# Altium integrated library AMP D Subminiature 050 Series.IntLib: 275 symbols (part 2 of 7)
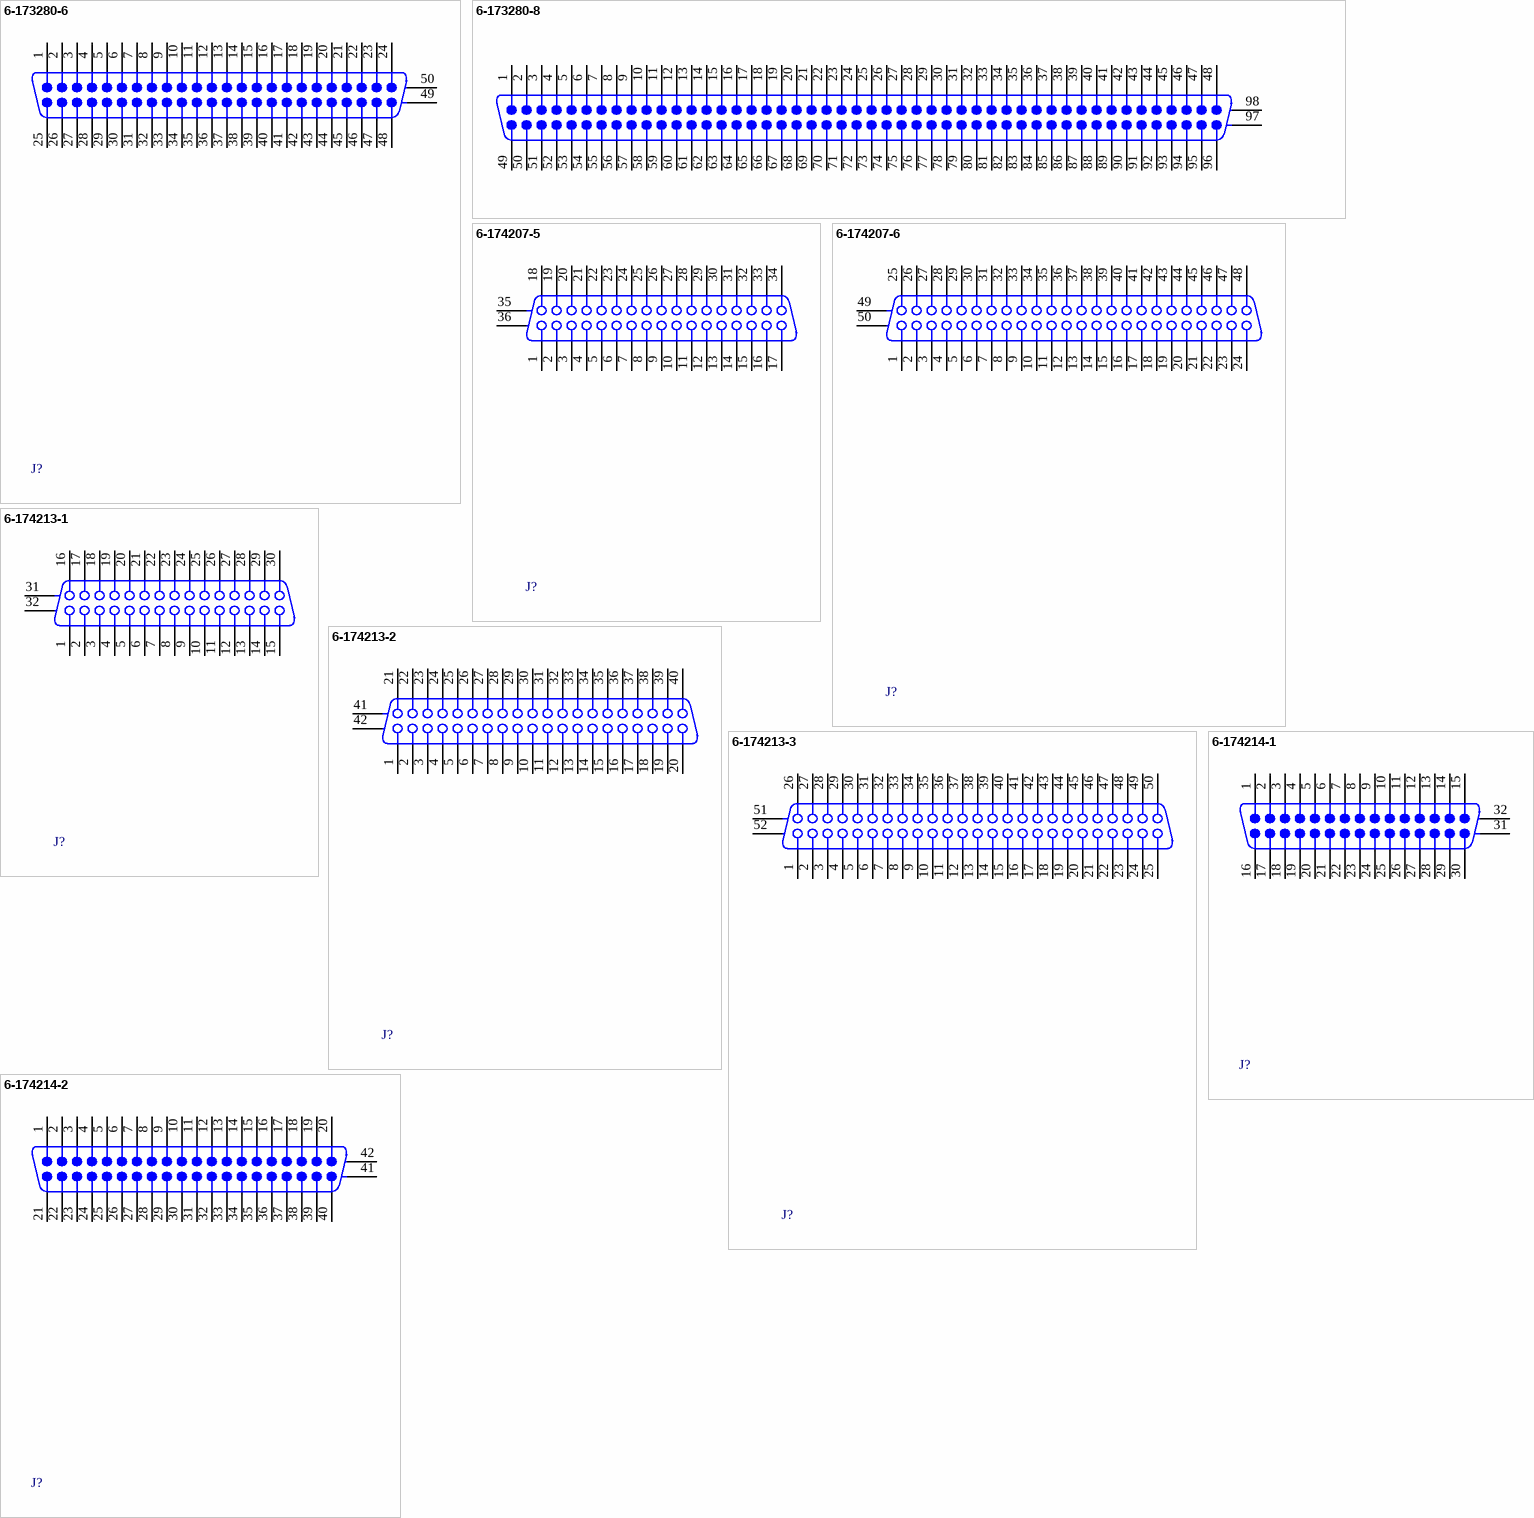
[diagram p31: symbols 6-173280-6 to 6-174214-2]

## 6-174213-1
designator J?
Plug Assembly, (Horizontal without Leg) AMPLIMITE I B-to-B Connector; Positions: 30; Note: Series I; Gender: Receptacle Header; Note: Without Mating Lock; PCB_Layout: Complies with manufacturer's recommendation.; DrillSize: Corresponds to nominal value.; Published: 17-Jul-2002; DatasheetDocument: Oct-1991; PackageDocument: 31-Oct-1991; PackageReference: 6-174213-1; Publisher: Altium Limited; Orientation: Right Angle; ComponentLink1Description: Manufacturer Link; ComponentLink1URL: http://www.tycoelectronics.com/; ComponentLink2Description: Packaging Specification; ComponentLink2URL: http://ecommas.tycoelectronics.com/commerce/DocumentDelivery/DDEController?Action=showdoc&DocId=Customer+Drawing%7F174213%7FE%7Fpdf%7FEnglish%7FENG_CD_174213_E.pdf
footprint 6-174213-1 (Connector; D Subminiature 050 Series; 30 Position; Right Angle)
signal-integrity model D Subminiature
pins: 1, 2, 3, 4, 5, 6, 7, 8, 9, 10, 11, 12, 13, 14, 15, 16, 17, 18, 19, 20, 21, 22, 23, 24, 25, 26, 27, 28, 29, 30, 31 MH1, 32 MH2

## 6-174213-2
designator J?
Plug Assembly, (Horizontal without Leg) AMPLIMITE I B-to-B Connector; Positions: 40; Note: Series I; Gender: Receptacle Header; Note: Without Mating Lock; PCB_Layout: Complies with manufacturer's recommendation.; DrillSize: Corresponds to nominal value.; Published: 17-Jul-2002; DatasheetDocument: Oct-1991; PackageDocument: 31-Oct-1991; PackageReference: 6-174213-2; Publisher: Altium Limited; Orientation: Right Angle; ComponentLink1Description: Manufacturer Link; ComponentLink1URL: http://www.tycoelectronics.com/; ComponentLink2Description: Packaging Specification; ComponentLink2URL: http://ecommas.tycoelectronics.com/commerce/DocumentDelivery/DDEController?Action=showdoc&DocId=Customer+Drawing%7F174213%7FE%7Fpdf%7FEnglish%7FENG_CD_174213_E.pdf
footprint 6-174213-2 (Connector; D Subminiature 050 Series; 40 Position; Right Angle)
signal-integrity model D Subminiature
pins: 1, 2, 3, 4, 5, 6, 7, 8, 9, 10, 11, 12, 13, 14, 15, 16, 17, 18, 19, 20, 21, 22, 23, 24, 25, 26, 27, 28, 29, 30, 31, 32, 33, 34, 35, 36, 37, 38, 39, 40, 41 MH1, 42 MH2

## 6-174213-3
designator J?
Plug Assembly, (Horizontal without Leg) AMPLIMITE I B-to-B Connector; Positions: 50; Note: Series I; Gender: Receptacle Header; Note: Without Mating Lock; PCB_Layout: Complies with manufacturer's recommendation.; DrillSize: Corresponds to nominal value.; Published: 17-Jul-2002; DatasheetDocument: Oct-1991; PackageDocument: 31-Oct-1991; PackageReference: 6-174213-3; Publisher: Altium Limited; Orientation: Right Angle; ComponentLink1Description: Manufacturer Link; ComponentLink1URL: http://www.tycoelectronics.com/; ComponentLink2Description: Packaging Specification; ComponentLink2URL: http://ecommas.tycoelectronics.com/commerce/DocumentDelivery/DDEController?Action=showdoc&DocId=Customer+Drawing%7F174213%7FE%7Fpdf%7FEnglish%7FENG_CD_174213_E.pdf
footprint 6-174213-3 (Connector; D Subminiature 050 Series; 50 Position; Right Angle)
signal-integrity model D Subminiature
pins: 1, 2, 3, 4, 5, 6, 7, 8, 9, 10, 11, 12, 13, 14, 15, 16, 17, 18, 19, 20, 21, 22, 23, 24, 25, 26, 27, 28, 29, 30, 31, 32, 33, 34, 35, 36, 37, 38, 39, 40, 41, 42, 43, 44, 45, 46, 47, 48, 49, 50, 51 MH1, 52 MH2

## 6-174214-1
designator J?
Cap Assembly, (Horizontal without Leg) AMPLIMITE I B-to-B Connector; Positions: 30; Note: Series I; Gender: Plug Header; Note: Without Mating Lock; PCB_Layout: Complies with manufacturer's recommendation.; DrillSize: Corresponds to nominal value.; Published: 17-Jul-2002; DatasheetDocument: Oct-1991; PackageDocument: 31-Oct-1991; PackageReference: 6-174214-1; Publisher: Altium Limited; Orientation: Right Angle; ComponentLink1Description: Manufacturer Link; ComponentLink1URL: http://www.tycoelectronics.com/; ComponentLink2Description: Packaging Specification; ComponentLink2URL: http://ecommas.tycoelectronics.com/commerce/DocumentDelivery/DDEController?Action=showdoc&DocId=Customer+Drawing%7F174214%7FE%7Fpdf%7FEnglish%7FENG_CD_174214_E.pdf
footprint 6-174214-1 (Connector; D Subminiature 050 Series; 30 Position; Right Angle)
signal-integrity model D Subminiature
pins: 1, 2, 3, 4, 5, 6, 7, 8, 9, 10, 11, 12, 13, 14, 15, 16, 17, 18, 19, 20, 21, 22, 23, 24, 25, 26, 27, 28, 29, 30, 31 MH1, 32 MH2

## 6-174214-2
designator J?
Cap Assembly, (Horizontal without Leg) AMPLIMITE I B-to-B Connector; Positions: 40; Note: Series I; Gender: Plug Header; Note: Without Mating Lock; PCB_Layout: Complies with manufacturer's recommendation.; DrillSize: Corresponds to nominal value.; Published: 17-Jul-2002; DatasheetDocument: Oct-1991; PackageDocument: 31-Oct-1991; PackageReference: 6-174214-2; Publisher: Altium Limited; Orientation: Right Angle; ComponentLink1Description: Manufacturer Link; ComponentLink1URL: http://www.tycoelectronics.com/; ComponentLink2Description: Packaging Specification; ComponentLink2URL: http://ecommas.tycoelectronics.com/commerce/DocumentDelivery/DDEController?Action=showdoc&DocId=Customer+Drawing%7F174214%7FE%7Fpdf%7FEnglish%7FENG_CD_174214_E.pdf
footprint 6-174214-2 (Connector; D Subminiature 050 Series; 40 Position; Right Angle)
signal-integrity model D Subminiature
pins: 1, 2, 3, 4, 5, 6, 7, 8, 9, 10, 11, 12, 13, 14, 15, 16, 17, 18, 19, 20, 21, 22, 23, 24, 25, 26, 27, 28, 29, 30, 31, 32, 33, 34, 35, 36, 37, 38, 39, 40, 41 MH1, 42 MH2

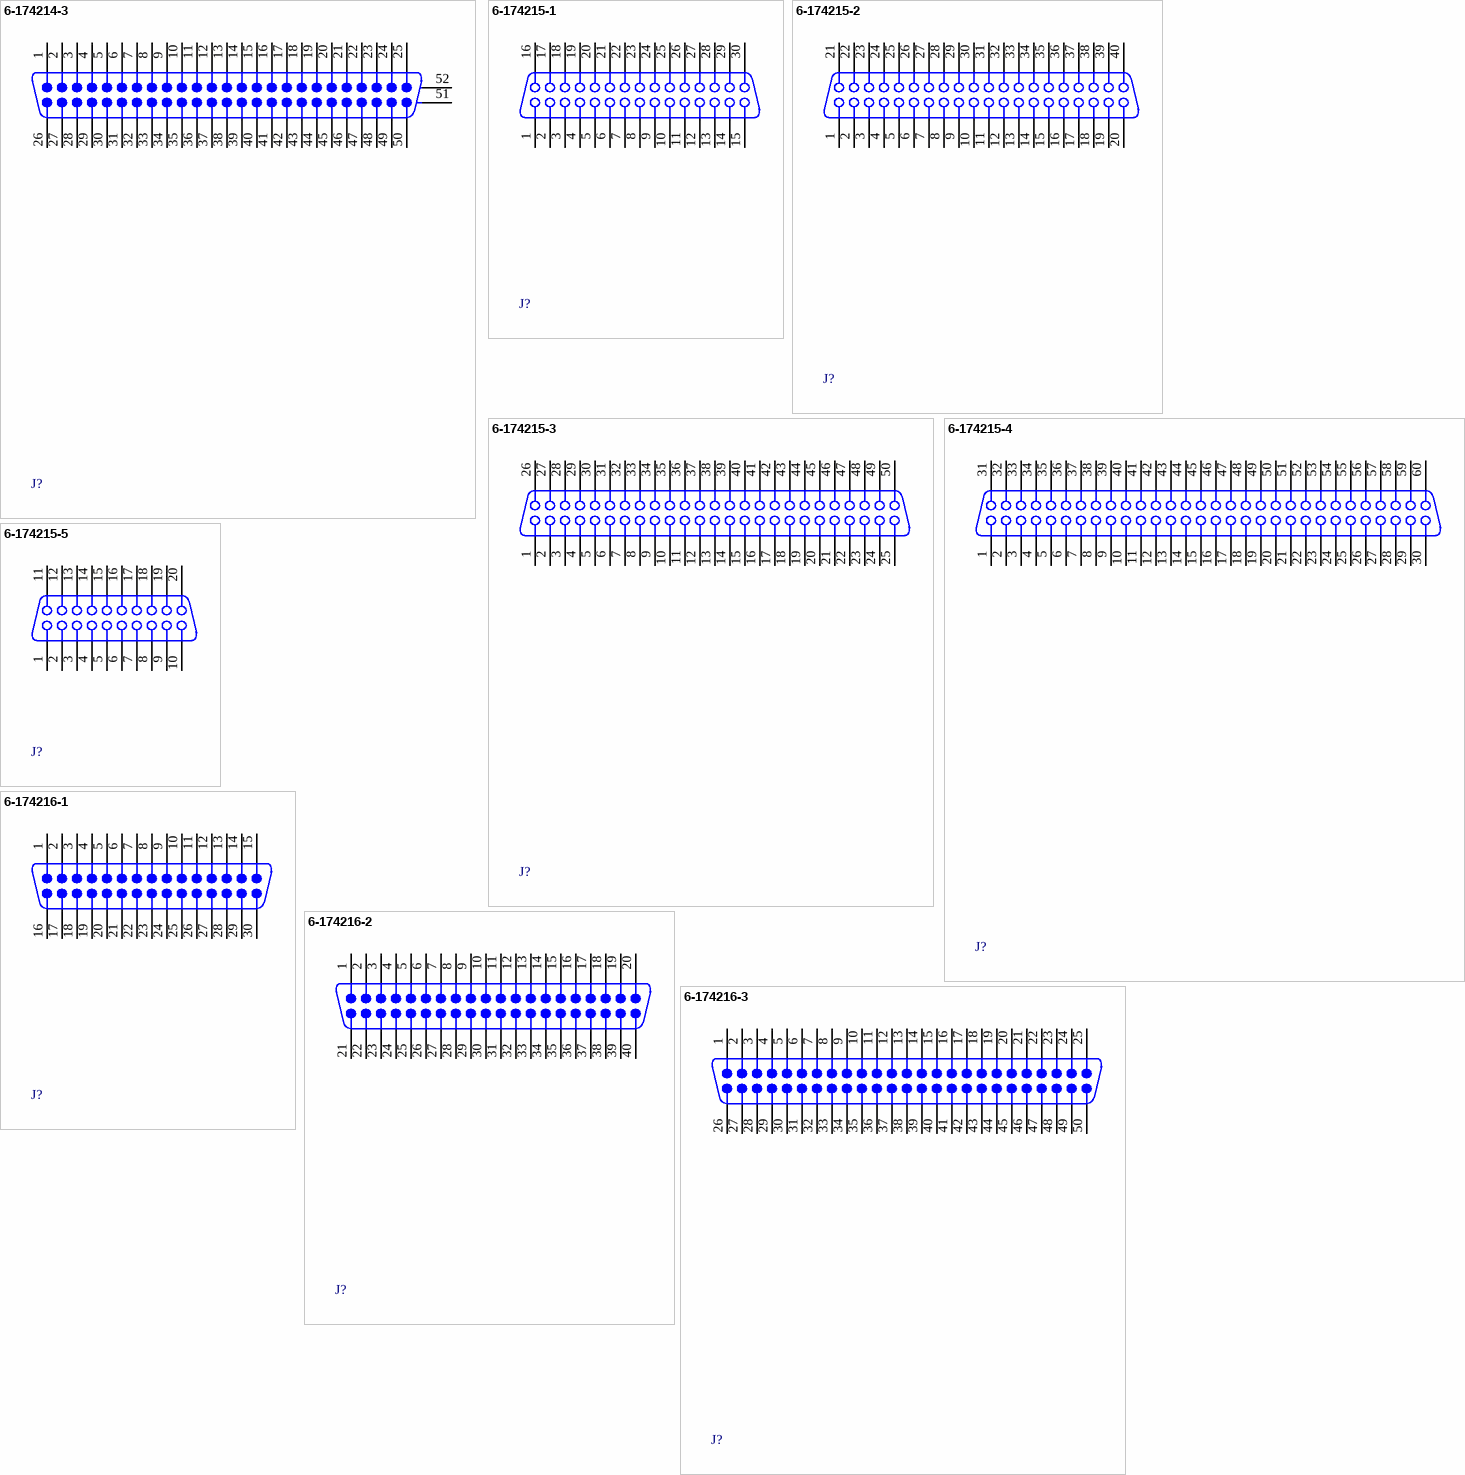
[diagram p5: symbols 6-174214-3 to 6-174216-3]

## 6-174214-3
designator J?
Cap Assembly, (Horizontal without Leg) AMPLIMITE I B-to-B Connector; Positions: 50; Note: Series I; Gender: Plug Header; Note: Without Mating Lock; PCB_Layout: Complies with manufacturer's recommendation.; DrillSize: Corresponds to nominal value.; Published: 17-Jul-2002; DatasheetDocument: Oct-1991; PackageDocument: 31-Oct-1991; PackageReference: 6-174214-3; Publisher: Altium Limited; Orientation: Right Angle; ComponentLink1Description: Manufacturer Link; ComponentLink1URL: http://www.tycoelectronics.com/; ComponentLink2Description: Packaging Specification; ComponentLink2URL: http://ecommas.tycoelectronics.com/commerce/DocumentDelivery/DDEController?Action=showdoc&DocId=Customer+Drawing%7F174214%7FE%7Fpdf%7FEnglish%7FENG_CD_174214_E.pdf
footprint 6-174214-3 (Connector; D Subminiature 050 Series; 50 Position; Right Angle)
signal-integrity model D Subminiature
pins: 1, 2, 3, 4, 5, 6, 7, 8, 9, 10, 11, 12, 13, 14, 15, 16, 17, 18, 19, 20, 21, 22, 23, 24, 25, 26, 27, 28, 29, 30, 31, 32, 33, 34, 35, 36, 37, 38, 39, 40, 41, 42, 43, 44, 45, 46, 47, 48, 49, 50, 51 MH1, 52 MH2

## 6-174215-1
designator J?
Plug Assembly, (Vertical without Screw Hole) AMPLIMITE 050 Series I B-to-B Connector; Positions: 30; Gender: Receptacle Header; Note: Without Mating Lock; PCB_Layout: Complies with manufacturer's recommendation.; DrillSize: Corresponds to nominal value.; Published: 17-Jul-2002; DatasheetDocument: Apr-1991; PackageDocument: Apr-1991; PackageReference: 6-174215-1; Publisher: Altium Limited; Orientation: Vertical; Note: Series I; ComponentLink1Description: Manufacturer Link; ComponentLink1URL: http://www.tycoelectronics.com/; ComponentLink2Description: Packaging Specification; ComponentLink2URL: http://ecommas.tycoelectronics.com/commerce/DocumentDelivery/DDEController?Action=showdoc&DocId=Customer+Drawing%7F174215%7FD%7Fpdf%7FEnglish%7FENG_CD_174215_D.pdf
footprint 6-174215-1 (Connector; D Subminiature 050 Series; 30 Position; Vertical)
signal-integrity model D Subminiature
pins: 1, 2, 3, 4, 5, 6, 7, 8, 9, 10, 11, 12, 13, 14, 15, 16, 17, 18, 19, 20, 21, 22, 23, 24, 25, 26, 27, 28, 29, 30

## 6-174215-2
designator J?
Plug Assembly, (Vertical without Screw Hole) AMPLIMITE 050 Series I B-to-B Connector; Positions: 40; Gender: Receptacle Header; Note: Without Mating Lock; PCB_Layout: Complies with manufacturer's recommendation.; DrillSize: Corresponds to nominal value.; Published: 17-Jul-2002; DatasheetDocument: Apr-1991; PackageDocument: Apr-1991; PackageReference: 6-174215-2; Publisher: Altium Limited; Orientation: Vertical; Note: Series I; ComponentLink1Description: Manufacturer Link; ComponentLink1URL: http://www.tycoelectronics.com/; ComponentLink2Description: Packaging Specification; ComponentLink2URL: http://ecommas.tycoelectronics.com/commerce/DocumentDelivery/DDEController?Action=showdoc&DocId=Customer+Drawing%7F174215%7FD%7Fpdf%7FEnglish%7FENG_CD_174215_D.pdf
footprint 6-174215-2 (Connector; D Subminiature 050 Series; 40 Position; Vertical)
signal-integrity model D Subminiature
pins: 1, 2, 3, 4, 5, 6, 7, 8, 9, 10, 11, 12, 13, 14, 15, 16, 17, 18, 19, 20, 21, 22, 23, 24, 25, 26, 27, 28, 29, 30, 31, 32, 33, 34, 35, 36, 37, 38, 39, 40

## 6-174215-3
designator J?
Plug Assembly, (Vertical without Screw Hole) AMPLIMITE 050 Series I B-to-B Connector; Positions: 50; Gender: Receptacle Header; Note: Without Mating Lock; PCB_Layout: Complies with manufacturer's recommendation.; DrillSize: Corresponds to nominal value.; Published: 17-Jul-2002; DatasheetDocument: Apr-1991; PackageDocument: Apr-1991; PackageReference: 6-174215-3; Publisher: Altium Limited; Orientation: Vertical; Note: Series I; ComponentLink1Description: Manufacturer Link; ComponentLink1URL: http://www.tycoelectronics.com/; ComponentLink2Description: Packaging Specification; ComponentLink2URL: http://ecommas.tycoelectronics.com/commerce/DocumentDelivery/DDEController?Action=showdoc&DocId=Customer+Drawing%7F174215%7FD%7Fpdf%7FEnglish%7FENG_CD_174215_D.pdf
footprint 6-174215-3 (Connector; D Subminiature 050 Series; 50 Position; Vertical)
signal-integrity model D Subminiature
pins: 1, 2, 3, 4, 5, 6, 7, 8, 9, 10, 11, 12, 13, 14, 15, 16, 17, 18, 19, 20, 21, 22, 23, 24, 25, 26, 27, 28, 29, 30, 31, 32, 33, 34, 35, 36, 37, 38, 39, 40, 41, 42, 43, 44, 45, 46, 47, 48, 49, 50

## 6-174215-4
designator J?
Plug Assembly, (Vertical without Screw Hole) AMPLIMITE 050 Series I B-to-B Connector; Positions: 60; Gender: Receptacle Header; Note: Without Mating Lock; PCB_Layout: Complies with manufacturer's recommendation.; DrillSize: Corresponds to nominal value.; Published: 17-Jul-2002; DatasheetDocument: Apr-1991; PackageDocument: Apr-1991; PackageReference: 6-174215-4; Publisher: Altium Limited; Orientation: Vertical; Note: Series I; ComponentLink1Description: Manufacturer Link; ComponentLink1URL: http://www.tycoelectronics.com/; ComponentLink2Description: Packaging Specification; ComponentLink2URL: http://ecommas.tycoelectronics.com/commerce/DocumentDelivery/DDEController?Action=showdoc&DocId=Customer+Drawing%7F174215%7FD%7Fpdf%7FEnglish%7FENG_CD_174215_D.pdf
footprint 6-174215-4 (Connector; D Subminiature 050 Series; 60 Position; Vertical)
signal-integrity model D Subminiature
pins: 1, 2, 3, 4, 5, 6, 7, 8, 9, 10, 11, 12, 13, 14, 15, 16, 17, 18, 19, 20, 21, 22, 23, 24, 25, 26, 27, 28, 29, 30, 31, 32, 33, 34, 35, 36, 37, 38, 39, 40, 41, 42, 43, 44, 45, 46, 47, 48, 49, 50, 51, 52, 53, 54, 55, 56, 57, 58, 59, 60

## 6-174215-5
designator J?
Plug Assembly, (Vertical without Screw Hole) AMPLIMITE 050 Series I B-to-B Connector; Positions: 20; Gender: Receptacle Header; Note: Without Mating Lock; PCB_Layout: Complies with manufacturer's recommendation.; DrillSize: Corresponds to nominal value.; Published: 17-Jul-2002; DatasheetDocument: Apr-1991; PackageDocument: Apr-1991; PackageReference: 6-174215-5; Publisher: Altium Limited; Orientation: Vertical; Note: Series I; ComponentLink1Description: Manufacturer Link; ComponentLink1URL: http://www.tycoelectronics.com/; ComponentLink2Description: Packaging Specification; ComponentLink2URL: http://ecommas.tycoelectronics.com/commerce/DocumentDelivery/DDEController?Action=showdoc&DocId=Customer+Drawing%7F174215%7FD%7Fpdf%7FEnglish%7FENG_CD_174215_D.pdf
footprint 6-174215-5 (Connector; D Subminiature 050 Series; 20 Position; Vertical)
signal-integrity model D Subminiature
pins: 1, 2, 3, 4, 5, 6, 7, 8, 9, 10, 11, 12, 13, 14, 15, 16, 17, 18, 19, 20

## 6-174216-1
designator J?
Cap Assembly, (Vertical without Screw Hole) AMPLIMITE 050 Series I B-to-B Connector; Positions: 30; Gender: Plug Header; Note: Without Mating Lock; PCB_Layout: Complies with manufacturer's recommendation.; DrillSize: Corresponds to nominal value.; Published: 17-Jul-2002; DatasheetDocument: Apr-1991; PackageDocument: Apr-1991; PackageReference: 6-174216-1; Publisher: Altium Limited; Orientation: Vertical; Note: Series I; ComponentLink1Description: Manufacturer Link; ComponentLink1URL: http://www.tycoelectronics.com/; ComponentLink2Description: Packaging Specification; ComponentLink2URL: http://ecommas.tycoelectronics.com/commerce/DocumentDelivery/DDEController?Action=showdoc&DocId=Customer+Drawing%7F174216%7FE%7Fpdf%7FEnglish%7FENG_CD_174216_E.pdf
footprint 6-174216-1 (Connector; D Subminiature 050 Series; 30 Position; Vertical)
signal-integrity model D Subminiature
pins: 1, 2, 3, 4, 5, 6, 7, 8, 9, 10, 11, 12, 13, 14, 15, 16, 17, 18, 19, 20, 21, 22, 23, 24, 25, 26, 27, 28, 29, 30

## 6-174216-2
designator J?
Cap Assembly, (Vertical without Screw Hole) AMPLIMITE 050 Series I B-to-B Connector; Positions: 40; Gender: Plug Header; Note: Without Mating Lock; PCB_Layout: Complies with manufacturer's recommendation.; DrillSize: Corresponds to nominal value.; Published: 17-Jul-2002; DatasheetDocument: Apr-1991; PackageDocument: Apr-1991; PackageReference: 6-174216-2; Publisher: Altium Limited; Orientation: Vertical; Note: Series I; ComponentLink1Description: Manufacturer Link; ComponentLink1URL: http://www.tycoelectronics.com/; ComponentLink2Description: Packaging Specification; ComponentLink2URL: http://ecommas.tycoelectronics.com/commerce/DocumentDelivery/DDEController?Action=showdoc&DocId=Customer+Drawing%7F174216%7FE%7Fpdf%7FEnglish%7FENG_CD_174216_E.pdf
footprint 6-174216-2 (Connector; D Subminiature 050 Series; 40 Position; Vertical)
signal-integrity model D Subminiature
pins: 1, 2, 3, 4, 5, 6, 7, 8, 9, 10, 11, 12, 13, 14, 15, 16, 17, 18, 19, 20, 21, 22, 23, 24, 25, 26, 27, 28, 29, 30, 31, 32, 33, 34, 35, 36, 37, 38, 39, 40

## 6-174216-3
designator J?
Cap Assembly, (Vertical without Screw Hole) AMPLIMITE 050 Series I B-to-B Connector; Positions: 50; Gender: Plug Header; Note: Without Mating Lock; PCB_Layout: Complies with manufacturer's recommendation.; DrillSize: Corresponds to nominal value.; Published: 17-Jul-2002; DatasheetDocument: Apr-1991; PackageDocument: Apr-1991; PackageReference: 6-174216-3; Publisher: Altium Limited; Orientation: Vertical; Note: Series I; ComponentLink1Description: Manufacturer Link; ComponentLink1URL: http://www.tycoelectronics.com/; ComponentLink2Description: Packaging Specification; ComponentLink2URL: http://ecommas.tycoelectronics.com/commerce/DocumentDelivery/DDEController?Action=showdoc&DocId=Customer+Drawing%7F174216%7FE%7Fpdf%7FEnglish%7FENG_CD_174216_E.pdf
footprint 6-174216-3 (Connector; D Subminiature 050 Series; 50 Position; Vertical)
signal-integrity model D Subminiature
pins: 1, 2, 3, 4, 5, 6, 7, 8, 9, 10, 11, 12, 13, 14, 15, 16, 17, 18, 19, 20, 21, 22, 23, 24, 25, 26, 27, 28, 29, 30, 31, 32, 33, 34, 35, 36, 37, 38, 39, 40, 41, 42, 43, 44, 45, 46, 47, 48, 49, 50

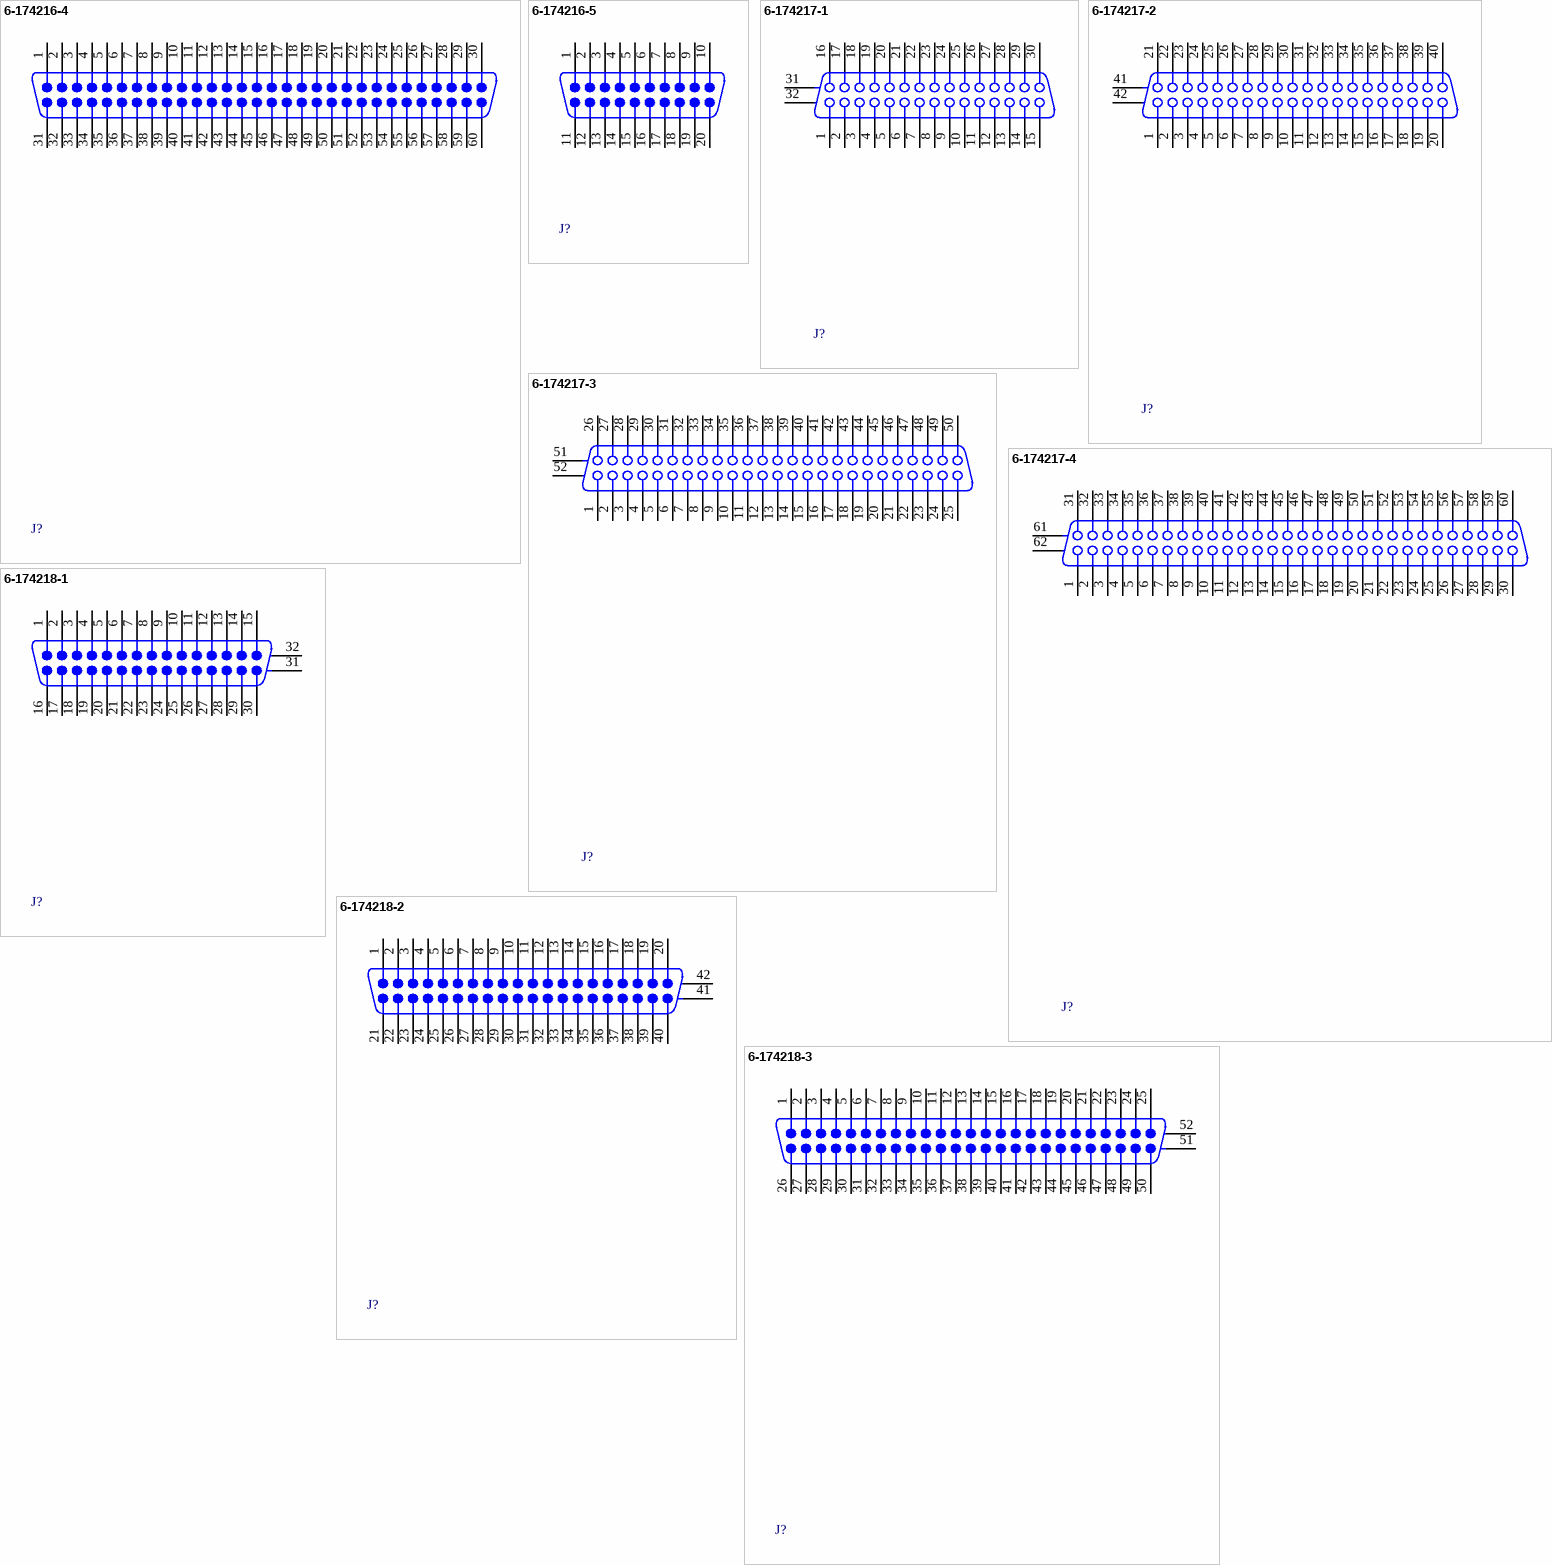
[diagram p6: symbols 6-174216-4 to 6-174218-3]

## 6-174216-4
designator J?
Cap Assembly, (Vertical without Screw Hole) AMPLIMITE 050 Series I B-to-B Connector; Positions: 60; Gender: Plug Header; Note: Without Mating Lock; PCB_Layout: Complies with manufacturer's recommendation.; DrillSize: Corresponds to nominal value.; Published: 17-Jul-2002; DatasheetDocument: Apr-1991; PackageDocument: Apr-1991; PackageReference: 6-174216-4; Publisher: Altium Limited; Orientation: Vertical; Note: Series I; ComponentLink1Description: Manufacturer Link; ComponentLink1URL: http://www.tycoelectronics.com/; ComponentLink2Description: Packaging Specification; ComponentLink2URL: http://ecommas.tycoelectronics.com/commerce/DocumentDelivery/DDEController?Action=showdoc&DocId=Customer+Drawing%7F174216%7FE%7Fpdf%7FEnglish%7FENG_CD_174216_E.pdf
footprint 6-174216-4 (Connector; D Subminiature 050 Series; 60 Position; Vertical)
signal-integrity model D Subminiature
pins: 1, 2, 3, 4, 5, 6, 7, 8, 9, 10, 11, 12, 13, 14, 15, 16, 17, 18, 19, 20, 21, 22, 23, 24, 25, 26, 27, 28, 29, 30, 31, 32, 33, 34, 35, 36, 37, 38, 39, 40, 41, 42, 43, 44, 45, 46, 47, 48, 49, 50, 51, 52, 53, 54, 55, 56, 57, 58, 59, 60

## 6-174216-5
designator J?
Cap Assembly, (Vertical without Screw Hole) AMPLIMITE 050 Series I B-to-B Connector; Positions: 20; Gender: Plug Header; Note: Without Mating Lock; PCB_Layout: Complies with manufacturer's recommendation.; DrillSize: Corresponds to nominal value.; Published: 17-Jul-2002; DatasheetDocument: Apr-1991; PackageDocument: Apr-1991; PackageReference: 6-174216-5; Publisher: Altium Limited; Orientation: Vertical; Note: Series I; ComponentLink1Description: Manufacturer Link; ComponentLink1URL: http://www.tycoelectronics.com/; ComponentLink2Description: Packaging Specification; ComponentLink2URL: http://ecommas.tycoelectronics.com/commerce/DocumentDelivery/DDEController?Action=showdoc&DocId=Customer+Drawing%7F174216%7FE%7Fpdf%7FEnglish%7FENG_CD_174216_E.pdf
footprint 6-174216-5 (Connector; D Subminiature 050 Series; 20 Position; Vertical)
signal-integrity model D Subminiature
pins: 1, 2, 3, 4, 5, 6, 7, 8, 9, 10, 11, 12, 13, 14, 15, 16, 17, 18, 19, 20

## 6-174217-1
designator J?
Plug Assembly, (Horizontal with Leg) AMPLIMITE I B-to-B Connector; Positions: 30; Note: Series I; Gender: Receptacle Header; Note: Without Mating Lock; PCB_Layout: Complies with manufacturer's recommendation.; DrillSize: Corresponds to nominal value.; Published: 17-Jul-2002; DatasheetDocument: Apr-1991; PackageDocument: Apr-1991; PackageReference: 6-174217-1; Publisher: Altium Limited; Orientation: Right Angle; ComponentLink1Description: Manufacturer Link; ComponentLink1URL: http://www.tycoelectronics.com/; ComponentLink2Description: Packaging Specification; ComponentLink2URL: http://ecommas.tycoelectronics.com/commerce/DocumentDelivery/DDEController?Action=showdoc&DocId=Customer+Drawing%7F174217%7FE%7Fpdf%7FEnglish%7FENG_CD_174217_E.pdf
footprint 6-174217-1 (Connector; D Subminiature 050 Series; 30 Position; Right Angle)
signal-integrity model D Subminiature
pins: 1, 2, 3, 4, 5, 6, 7, 8, 9, 10, 11, 12, 13, 14, 15, 16, 17, 18, 19, 20, 21, 22, 23, 24, 25, 26, 27, 28, 29, 30, 31 MH1, 32 MH2

## 6-174217-2
designator J?
Plug Assembly, (Horizontal with Leg) AMPLIMITE I B-to-B Connector; Positions: 40; Note: Series I; Gender: Receptacle Header; Note: Without Mating Lock; PCB_Layout: Complies with manufacturer's recommendation.; DrillSize: Corresponds to nominal value.; Published: 17-Jul-2002; DatasheetDocument: Apr-1991; PackageDocument: Apr-1991; PackageReference: 6-174217-2; Publisher: Altium Limited; Orientation: Right Angle; ComponentLink1Description: Manufacturer Link; ComponentLink1URL: http://www.tycoelectronics.com/; ComponentLink2Description: Packaging Specification; ComponentLink2URL: http://ecommas.tycoelectronics.com/commerce/DocumentDelivery/DDEController?Action=showdoc&DocId=Customer+Drawing%7F174217%7FE%7Fpdf%7FEnglish%7FENG_CD_174217_E.pdf
footprint 6-174217-2 (Connector; D Subminiature 050 Series; 40 Position; Right Angle)
signal-integrity model D Subminiature
pins: 1, 2, 3, 4, 5, 6, 7, 8, 9, 10, 11, 12, 13, 14, 15, 16, 17, 18, 19, 20, 21, 22, 23, 24, 25, 26, 27, 28, 29, 30, 31, 32, 33, 34, 35, 36, 37, 38, 39, 40, 41 MH1, 42 MH2

## 6-174217-3
designator J?
Plug Assembly, (Horizontal with Leg) AMPLIMITE I B-to-B Connector; Positions: 50; Note: Series I; Gender: Receptacle Header; Note: Without Mating Lock; PCB_Layout: Complies with manufacturer's recommendation.; DrillSize: Corresponds to nominal value.; Published: 17-Jul-2002; DatasheetDocument: Apr-1991; PackageDocument: Apr-1991; PackageReference: 6-174217-3; Publisher: Altium Limited; Orientation: Right Angle; ComponentLink1Description: Manufacturer Link; ComponentLink1URL: http://www.tycoelectronics.com/; ComponentLink2Description: Packaging Specification; ComponentLink2URL: http://ecommas.tycoelectronics.com/commerce/DocumentDelivery/DDEController?Action=showdoc&DocId=Customer+Drawing%7F174217%7FE%7Fpdf%7FEnglish%7FENG_CD_174217_E.pdf
footprint 6-174217-3 (Connector; D Subminiature 050 Series; 50 Position; Right Angle)
signal-integrity model D Subminiature
pins: 1, 2, 3, 4, 5, 6, 7, 8, 9, 10, 11, 12, 13, 14, 15, 16, 17, 18, 19, 20, 21, 22, 23, 24, 25, 26, 27, 28, 29, 30, 31, 32, 33, 34, 35, 36, 37, 38, 39, 40, 41, 42, 43, 44, 45, 46, 47, 48, 49, 50, 51 MH1, 52 MH2

## 6-174217-4
designator J?
Plug Assembly, (Horizontal with Leg) AMPLIMITE I B-to-B Connector; Positions: 60; Note: Series I; Gender: Receptacle Header; Note: Without Mating Lock; PCB_Layout: Complies with manufacturer's recommendation.; DrillSize: Corresponds to nominal value.; Published: 17-Jul-2002; DatasheetDocument: Apr-1991; PackageDocument: Apr-1991; PackageReference: 6-174217-4; Publisher: Altium Limited; Orientation: Right Angle; ComponentLink1Description: Manufacturer Link; ComponentLink1URL: http://www.tycoelectronics.com/; ComponentLink2Description: Packaging Specification; ComponentLink2URL: http://ecommas.tycoelectronics.com/commerce/DocumentDelivery/DDEController?Action=showdoc&DocId=Customer+Drawing%7F174217%7FE%7Fpdf%7FEnglish%7FENG_CD_174217_E.pdf
footprint 6-174217-4 (Connector; D Subminiature 050 Series; 60 Position; Right Angle)
signal-integrity model D Subminiature
pins: 1, 2, 3, 4, 5, 6, 7, 8, 9, 10, 11, 12, 13, 14, 15, 16, 17, 18, 19, 20, 21, 22, 23, 24, 25, 26, 27, 28, 29, 30, 31, 32, 33, 34, 35, 36, 37, 38, 39, 40, 41, 42, 43, 44, 45, 46, 47, 48, 49, 50, 51, 52, 53, 54, 55, 56, 57, 58, 59, 60, 61 MH1, 62 MH2

## 6-174218-1
designator J?
Cap Assembly, (Horizontal with Leg) AMPLIMITE I B-to-B Connector; Positions: 30; Note: Series I; Gender: Plug Header; Note: Without Mating Lock; PCB_Layout: Complies with manufacturer's recommendation.; DrillSize: Corresponds to nominal value.; Published: 17-Jul-2002; DatasheetDocument: Apr-1991; PackageDocument: Apr-1991; PackageReference: 6-174218-1; Publisher: Altium Limited; Orientation: Right Angle; ComponentLink1Description: Manufacturer Link; ComponentLink1URL: http://www.tycoelectronics.com/; ComponentLink2Description: Packaging Specification; ComponentLink2URL: http://ecommas.tycoelectronics.com/commerce/DocumentDelivery/DDEController?Action=showdoc&DocId=Customer+Drawing%7F174218%7FE%7Fpdf%7FEnglish%7FENG_CD_174218_E.pdf
footprint 6-174218-1 (Connector; D Subminiature 050 Series; 30 Position; Right Angle)
signal-integrity model D Subminiature
pins: 1, 2, 3, 4, 5, 6, 7, 8, 9, 10, 11, 12, 13, 14, 15, 16, 17, 18, 19, 20, 21, 22, 23, 24, 25, 26, 27, 28, 29, 30, 31 MH1, 32 MH2

## 6-174218-2
designator J?
Cap Assembly, (Horizontal with Leg) AMPLIMITE I B-to-B Connector; Positions: 40; Note: Series I; Gender: Plug Header; Note: Without Mating Lock; PCB_Layout: Complies with manufacturer's recommendation.; DrillSize: Corresponds to nominal value.; Published: 17-Jul-2002; DatasheetDocument: Apr-1991; PackageDocument: Apr-1991; PackageReference: 6-174218-2; Publisher: Altium Limited; Orientation: Right Angle; ComponentLink1Description: Manufacturer Link; ComponentLink1URL: http://www.tycoelectronics.com/; ComponentLink2Description: Packaging Specification; ComponentLink2URL: http://ecommas.tycoelectronics.com/commerce/DocumentDelivery/DDEController?Action=showdoc&DocId=Customer+Drawing%7F174218%7FE%7Fpdf%7FEnglish%7FENG_CD_174218_E.pdf
footprint 6-174218-2 (Connector; D Subminiature 050 Series; 40 Position; Right Angle)
signal-integrity model D Subminiature
pins: 1, 2, 3, 4, 5, 6, 7, 8, 9, 10, 11, 12, 13, 14, 15, 16, 17, 18, 19, 20, 21, 22, 23, 24, 25, 26, 27, 28, 29, 30, 31, 32, 33, 34, 35, 36, 37, 38, 39, 40, 41 MH1, 42 MH2

## 6-174218-3
designator J?
Cap Assembly, (Horizontal with Leg) AMPLIMITE I B-to-B Connector; Positions: 50; Note: Series I; Gender: Plug Header; Note: Without Mating Lock; PCB_Layout: Complies with manufacturer's recommendation.; DrillSize: Corresponds to nominal value.; Published: 17-Jul-2002; DatasheetDocument: Apr-1991; PackageDocument: Apr-1991; PackageReference: 6-174218-3; Publisher: Altium Limited; Orientation: Right Angle; ComponentLink1Description: Manufacturer Link; ComponentLink1URL: http://www.tycoelectronics.com/; ComponentLink2Description: Packaging Specification; ComponentLink2URL: http://ecommas.tycoelectronics.com/commerce/DocumentDelivery/DDEController?Action=showdoc&DocId=Customer+Drawing%7F174218%7FE%7Fpdf%7FEnglish%7FENG_CD_174218_E.pdf
footprint 6-174218-3 (Connector; D Subminiature 050 Series; 50 Position; Right Angle)
signal-integrity model D Subminiature
pins: 1, 2, 3, 4, 5, 6, 7, 8, 9, 10, 11, 12, 13, 14, 15, 16, 17, 18, 19, 20, 21, 22, 23, 24, 25, 26, 27, 28, 29, 30, 31, 32, 33, 34, 35, 36, 37, 38, 39, 40, 41, 42, 43, 44, 45, 46, 47, 48, 49, 50, 51 MH1, 52 MH2

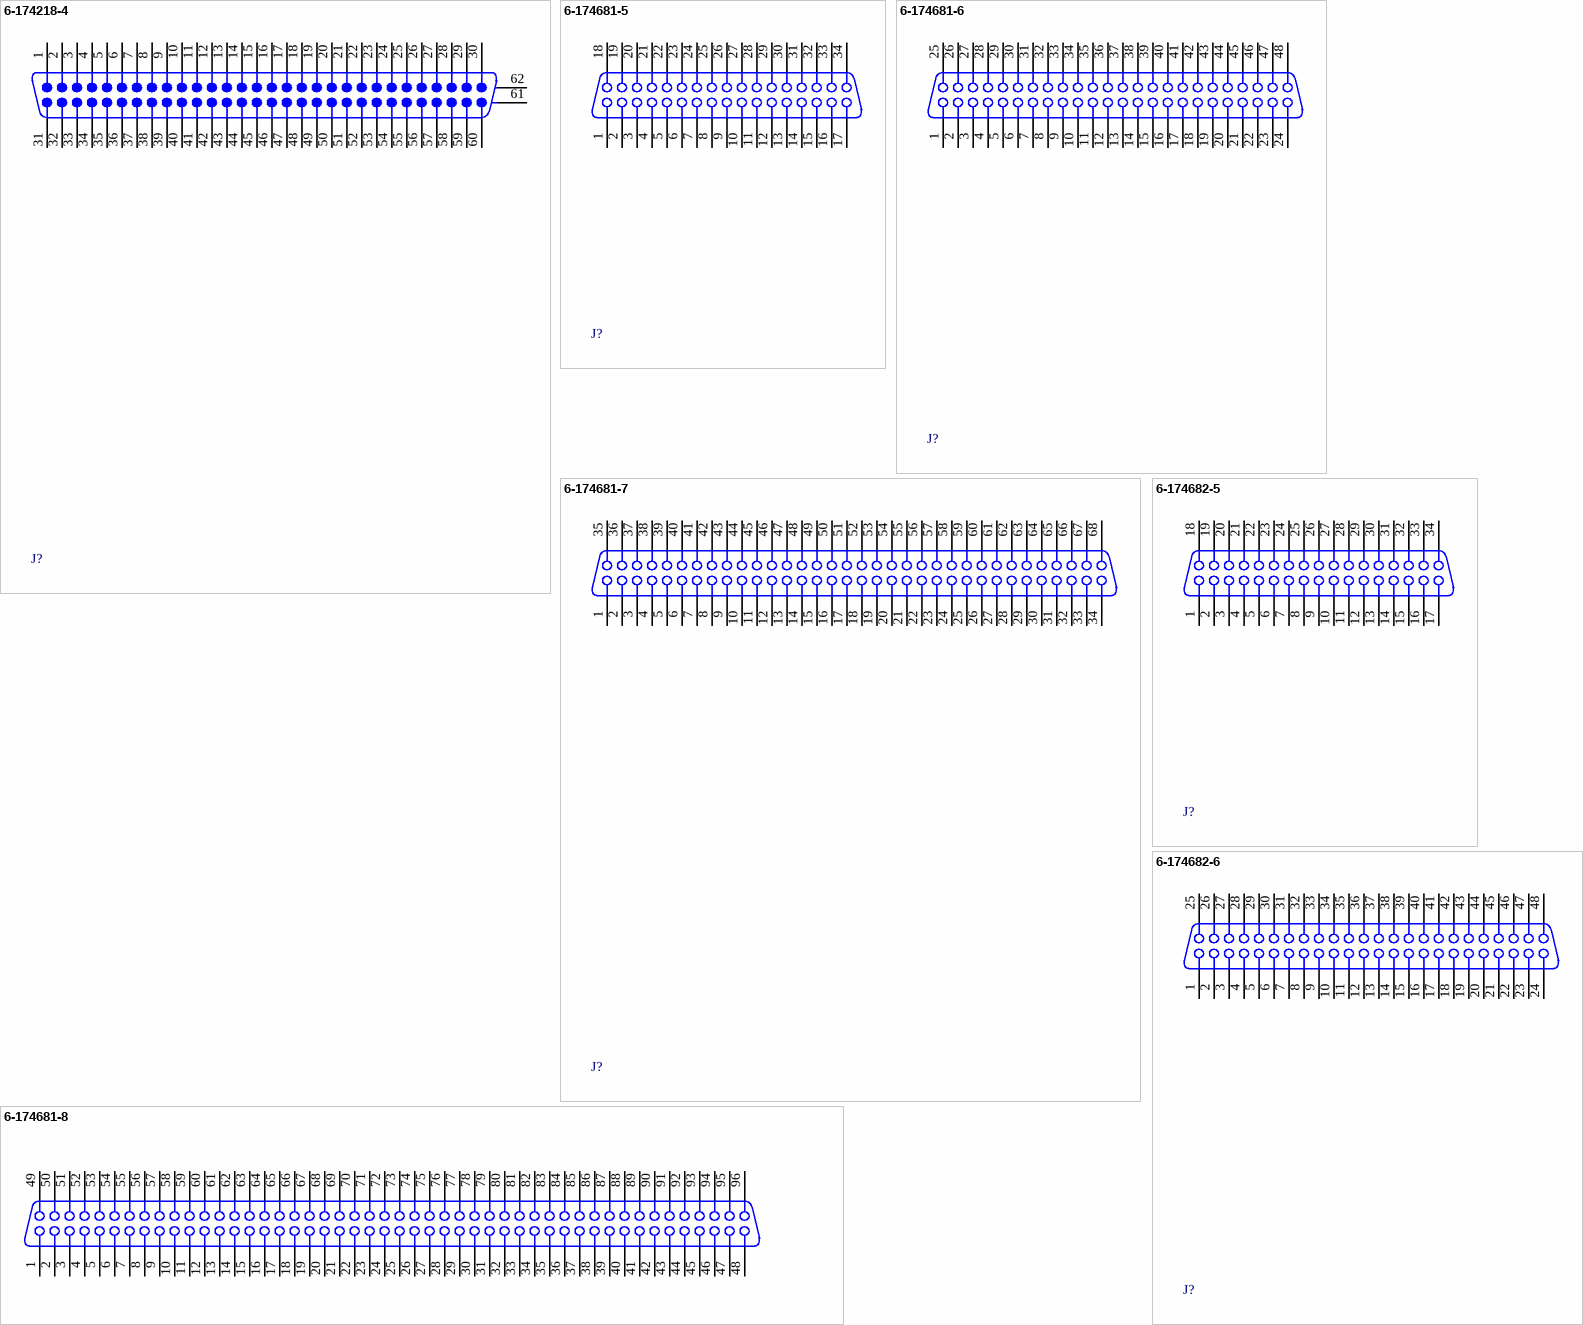
[diagram p7: symbols 6-174218-4 to 6-174682-6]

## 6-174218-4
designator J?
Cap Assembly, (Horizontal with Leg) AMPLIMITE I B-to-B Connector; Positions: 60; Note: Series I; Gender: Plug Header; Note: Without Mating Lock; PCB_Layout: Complies with manufacturer's recommendation.; DrillSize: Corresponds to nominal value.; Published: 17-Jul-2002; DatasheetDocument: Apr-1991; PackageDocument: Apr-1991; PackageReference: 6-174218-4; Publisher: Altium Limited; Orientation: Right Angle; ComponentLink1Description: Manufacturer Link; ComponentLink1URL: http://www.tycoelectronics.com/; ComponentLink2Description: Packaging Specification; ComponentLink2URL: http://ecommas.tycoelectronics.com/commerce/DocumentDelivery/DDEController?Action=showdoc&DocId=Customer+Drawing%7F174218%7FE%7Fpdf%7FEnglish%7FENG_CD_174218_E.pdf
footprint 6-174218-4 (Connector; D Subminiature 050 Series; 60 Position; Right Angle)
signal-integrity model D Subminiature
pins: 1, 2, 3, 4, 5, 6, 7, 8, 9, 10, 11, 12, 13, 14, 15, 16, 17, 18, 19, 20, 21, 22, 23, 24, 25, 26, 27, 28, 29, 30, 31, 32, 33, 34, 35, 36, 37, 38, 39, 40, 41, 42, 43, 44, 45, 46, 47, 48, 49, 50, 51, 52, 53, 54, 55, 56, 57, 58, 59, 60, 61 MH1, 62 MH2

## 6-174681-5
designator J?
Plug Assembly, Vertical with Kink; Positions: 34; Note: Series I; Gender: Receptacle Header; Note: Without Mating Lock; PCB_Layout: Complies with manufacturer's recommendation.; DrillSize: Corresponds to nominal value.; Published: 17-Jul-2002; DatasheetDocument: Apr-1991; PackageDocument: Apr-1991; PackageReference: 6-174681-5; Publisher: Altium Limited; Orientation: Vertical; ComponentLink1Description: Manufacturer Link; ComponentLink1URL: http://www.tycoelectronics.com/; ComponentLink2Description: Packaging Specification; ComponentLink2URL: http://ecommas.tycoelectronics.com/commerce/DocumentDelivery/DDEController?Action=showdoc&DocId=Customer+Drawing%7F174681%7FB%7Fpdf%7FEnglish%7FENG_CD_174681_B.pdf; ComponentLink3Description: Iges Model; ComponentLink3URL: http://catalog.tycoelectronics.com/TE/docs/cadgeo/4/92/30294.tar.gz
footprint 6-174681-5 (Connector; D Subminiature 050 Series; 34 Position; Vertical)
signal-integrity model D Subminiature
pins: 1, 2, 3, 4, 5, 6, 7, 8, 9, 10, 11, 12, 13, 14, 15, 16, 17, 18, 19, 20, 21, 22, 23, 24, 25, 26, 27, 28, 29, 30, 31, 32, 33, 34

## 6-174681-6
designator J?
Plug Assembly, Vertical with Kink; Positions: 48; Note: Series I; Gender: Receptacle Header; Note: Without Mating Lock; PCB_Layout: Complies with manufacturer's recommendation.; DrillSize: Corresponds to nominal value.; Published: 17-Jul-2002; DatasheetDocument: Apr-1991; PackageDocument: Apr-1991; PackageReference: 6-174681-6; Publisher: Altium Limited; Orientation: Vertical; ComponentLink1Description: Manufacturer Link; ComponentLink1URL: http://www.tycoelectronics.com/; ComponentLink2Description: Packaging Specification; ComponentLink2URL: http://ecommas.tycoelectronics.com/commerce/DocumentDelivery/DDEController?Action=showdoc&DocId=Customer+Drawing%7F174681%7FB%7Fpdf%7FEnglish%7FENG_CD_174681_B.pdf; ComponentLink3Description: Iges Model; ComponentLink3URL: http://catalog.tycoelectronics.com/TE/docs/cadgeo/4/92/30294.tar.gz
footprint 6-174681-6 (Connector; D Subminiature 050 Series; 48 Position; Vertical)
signal-integrity model D Subminiature
pins: 1, 2, 3, 4, 5, 6, 7, 8, 9, 10, 11, 12, 13, 14, 15, 16, 17, 18, 19, 20, 21, 22, 23, 24, 25, 26, 27, 28, 29, 30, 31, 32, 33, 34, 35, 36, 37, 38, 39, 40, 41, 42, 43, 44, 45, 46, 47, 48

## 6-174681-7
designator J?
Plug Assembly, Vertical with Kink; Positions: 68; Note: Series I; Gender: Receptacle Header; Note: Without Mating Lock; PCB_Layout: Complies with manufacturer's recommendation.; DrillSize: Corresponds to nominal value.; Published: 17-Jul-2002; DatasheetDocument: Apr-1991; PackageDocument: Apr-1991; PackageReference: 6-174681-7; Publisher: Altium Limited; Orientation: Vertical; ComponentLink1Description: Manufacturer Link; ComponentLink1URL: http://www.tycoelectronics.com/; ComponentLink2Description: Packaging Specification; ComponentLink2URL: http://ecommas.tycoelectronics.com/commerce/DocumentDelivery/DDEController?Action=showdoc&DocId=Customer+Drawing%7F174681%7FB%7Fpdf%7FEnglish%7FENG_CD_174681_B.pdf; ComponentLink3Description: Iges Model; ComponentLink3URL: http://catalog.tycoelectronics.com/TE/docs/cadgeo/4/92/30294.tar.gz
footprint 6-174681-7 (Connector; D Subminiature 050 Series; 68 Position; Vertical)
signal-integrity model D Subminiature
pins: 1, 2, 3, 4, 5, 6, 7, 8, 9, 10, 11, 12, 13, 14, 15, 16, 17, 18, 19, 20, 21, 22, 23, 24, 25, 26, 27, 28, 29, 30, 31, 32, 33, 34, 35, 36, 37, 38, 39, 40, 41, 42, 43, 44, 45, 46, 47, 48, 49, 50, 51, 52, 53, 54, 55, 56, 57, 58, 59, 60, 61, 62, 63, 64, 65, 66, 67, 68

## 6-174681-8
designator J?
Plug Assembly, Vertical with Kink; Positions: 96; Note: Series I; Gender: Receptacle Header; Note: Without Mating Lock; PCB_Layout: Complies with manufacturer's recommendation.; DrillSize: Corresponds to nominal value.; Published: 17-Jul-2002; DatasheetDocument: Apr-1991; PackageDocument: Apr-1991; PackageReference: 6-174681-8; Publisher: Altium Limited; Orientation: Vertical; ComponentLink1Description: Manufacturer Link; ComponentLink1URL: http://www.tycoelectronics.com/; ComponentLink2Description: Packaging Specification; ComponentLink2URL: http://ecommas.tycoelectronics.com/commerce/DocumentDelivery/DDEController?Action=showdoc&DocId=Customer+Drawing%7F174681%7FB%7Fpdf%7FEnglish%7FENG_CD_174681_B.pdf; ComponentLink3Description: Iges Model; ComponentLink3URL: http://catalog.tycoelectronics.com/TE/docs/cadgeo/4/92/30294.tar.gz
footprint 6-174681-8 (Connector; D Subminiature 050 Series; 96 Position; Vertical)
signal-integrity model D Subminiature
pins: 1, 2, 3, 4, 5, 6, 7, 8, 9, 10, 11, 12, 13, 14, 15, 16, 17, 18, 19, 20, 21, 22, 23, 24, 25, 26, 27, 28, 29, 30, 31, 32, 33, 34, 35, 36, 37, 38, 39, 40, 41, 42, 43, 44, 45, 46, 47, 48, 49, 50, 51, 52, 53, 54, 55, 56, 57, 58, 59, 60, 61, 62, 63, 64, 65, 66, 67, 68, 69, 70, 71, 72, 73, 74, 75, 76, 77, 78, 79, 80, 81, 82, 83, 84, 85, 86, 87, 88, 89, 90, 91, 92, 93, 94, 95, 96

## 6-174682-5
designator J?
Plug Assembly, Horizontal with Kink; Positions: 34; Note: Series I; Gender: Receptacle Header; Note: Without Mating Lock; PCB_Layout: Complies with manufacturer's recommendation.; DrillSize: Corresponds to nominal value.; ComponentAvailability: Obsolete; Published: 17-Jul-2002; DatasheetDocument: 29-Mar-1991; PackageDocument: 29-Mar-1991; PackageReference: 6-174682-5; Publisher: Altium Limited; Orientation: Right Angle; ComponentLink1Description: Manufacturer Link; ComponentLink1URL: http://www.tycoelectronics.com/; ComponentLink2Description: Packaging Specification; ComponentLink2URL: http://ecommas.tycoelectronics.com/commerce/DocumentDelivery/DDEController?Action=showdoc&DocId=Customer+Drawing%7F174682%7FD%7Ftif%7FJapanese%7FJPN_CD_174682_D.tif
footprint 6-174682-5 (Connector; D Subminiature 050 Series; 34 Position; Right Angle)
signal-integrity model D Subminiature
pins: 1, 2, 3, 4, 5, 6, 7, 8, 9, 10, 11, 12, 13, 14, 15, 16, 17, 18, 19, 20, 21, 22, 23, 24, 25, 26, 27, 28, 29, 30, 31, 32, 33, 34

## 6-174682-6
designator J?
Plug Assembly, Horizontal with Kink; Positions: 48; Note: Series I; Gender: Receptacle Header; Note: Without Mating Lock; PCB_Layout: Complies with manufacturer's recommendation.; DrillSize: Corresponds to nominal value.; ComponentAvailability: Obsolete; Published: 17-Jul-2002; DatasheetDocument: 29-Mar-1991; PackageDocument: 29-Mar-1991; PackageReference: 6-174682-6; Publisher: Altium Limited; Orientation: Right Angle; ComponentLink1Description: Manufacturer Link; ComponentLink1URL: http://www.tycoelectronics.com/; ComponentLink2Description: Packaging Specification; ComponentLink2URL: http://ecommas.tycoelectronics.com/commerce/DocumentDelivery/DDEController?Action=showdoc&DocId=Customer+Drawing%7F174682%7FD%7Ftif%7FJapanese%7FJPN_CD_174682_D.tif
footprint 6-174682-6 (Connector; D Subminiature 050 Series; 48 Position; Right Angle)
signal-integrity model D Subminiature
pins: 1, 2, 3, 4, 5, 6, 7, 8, 9, 10, 11, 12, 13, 14, 15, 16, 17, 18, 19, 20, 21, 22, 23, 24, 25, 26, 27, 28, 29, 30, 31, 32, 33, 34, 35, 36, 37, 38, 39, 40, 41, 42, 43, 44, 45, 46, 47, 48

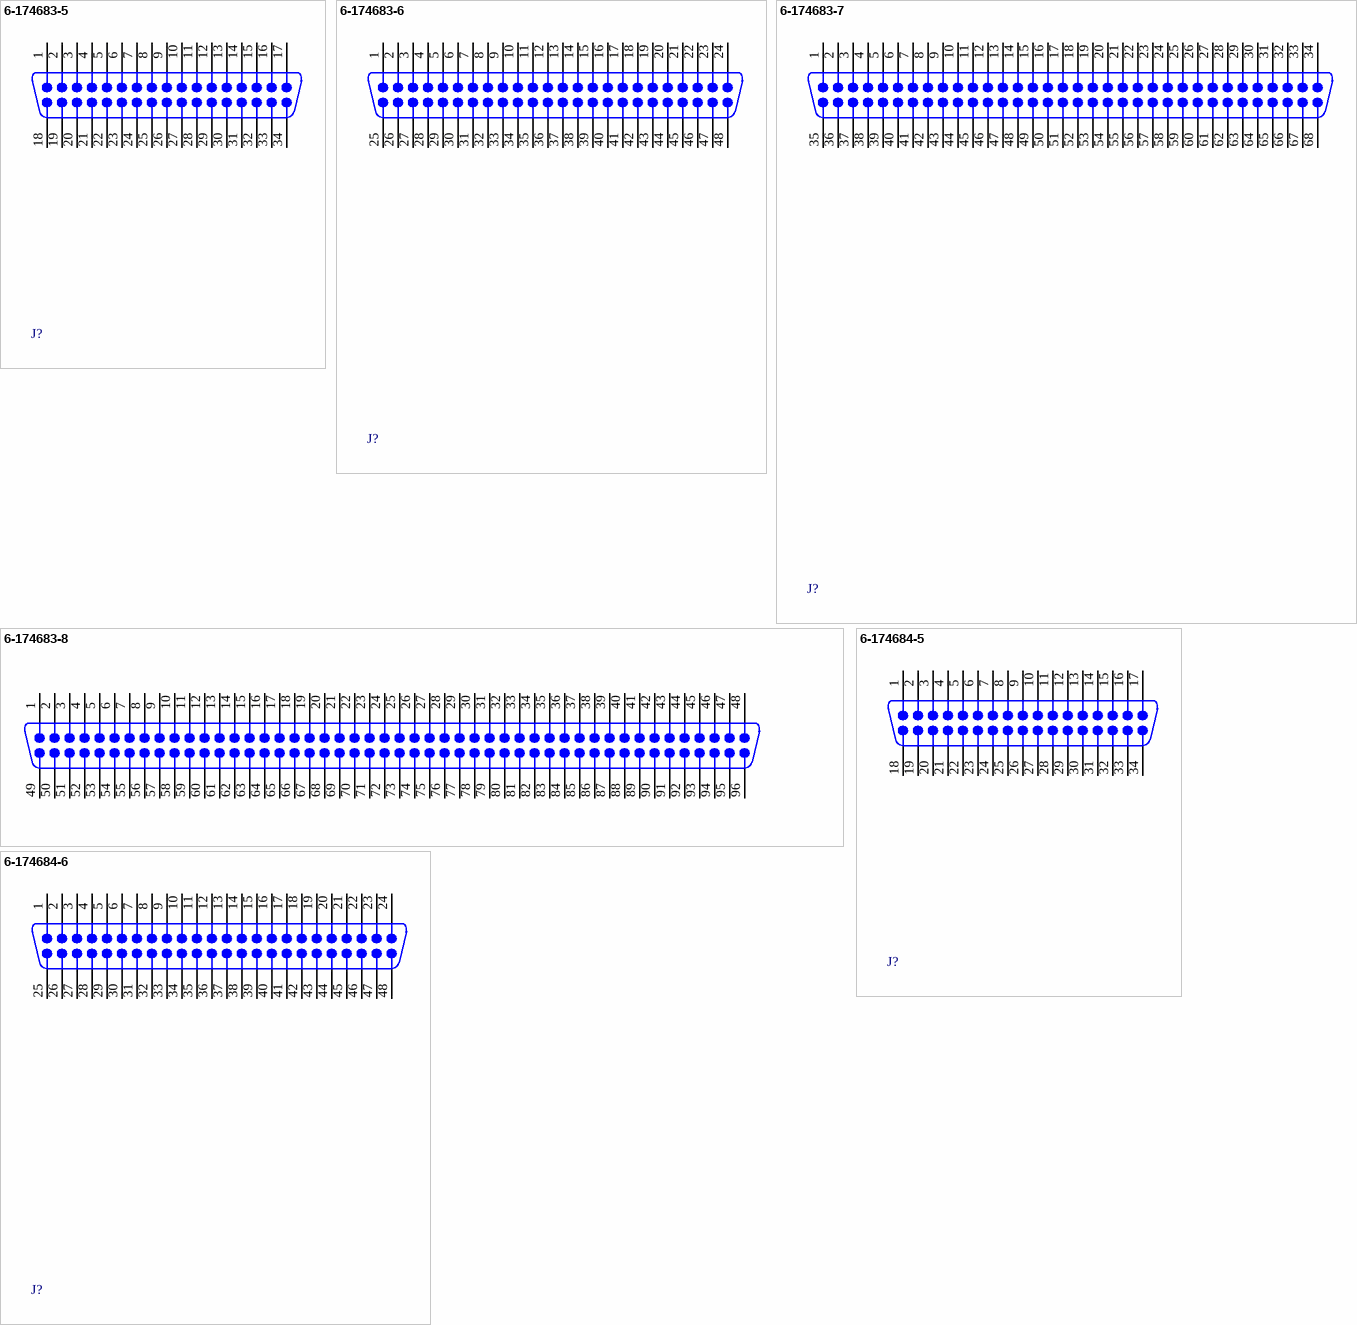
[diagram p8: symbols 6-174683-5 to 6-174684-6]

## 6-174683-5
designator J?
Cap Assembly, Vertical with Kink for AMPLIMITE I B-to-B Connector; Positions: 34; Note: Series I; Gender: Plug Header; Note: Without Mating Lock; PCB_Layout: Complies with manufacturer's recommendation.; DrillSize: Corresponds to nominal value.; Published: 17-Jul-2002; DatasheetDocument: 29-Mar-1991; PackageDocument: 29-Mar-1991; PackageReference: 6-174683-5; Publisher: Altium Limited; Orientation: Vertical; ComponentLink1Description: Manufacturer Link; ComponentLink1URL: http://www.tycoelectronics.com/; ComponentLink2Description: Packaging Specification; ComponentLink2URL: http://ecommas.tycoelectronics.com/commerce/DocumentDelivery/DDEController?Action=showdoc&DocId=Customer+Drawing%7F174683%7FB%7Fpdf%7FEnglish%7FENG_CD_174683_B.pdf; ComponentLink3Description: Iges Model; ComponentLink3URL: http://catalog.tycoelectronics.com/TE/docs/cadgeo/0/13/30310.tar.gz
footprint 6-174683-5 (Connector; D Subminiature 050 Series; 34 Position; Vertical)
signal-integrity model D Subminiature
pins: 1, 2, 3, 4, 5, 6, 7, 8, 9, 10, 11, 12, 13, 14, 15, 16, 17, 18, 19, 20, 21, 22, 23, 24, 25, 26, 27, 28, 29, 30, 31, 32, 33, 34

## 6-174683-6
designator J?
Cap Assembly, Vertical with Kink for AMPLIMITE I B-to-B Connector; Positions: 48; Note: Series I; Gender: Plug Header; Note: Without Mating Lock; PCB_Layout: Complies with manufacturer's recommendation.; DrillSize: Corresponds to nominal value.; Published: 17-Jul-2002; DatasheetDocument: 29-Mar-1991; PackageDocument: 29-Mar-1991; PackageReference: 6-174683-6; Publisher: Altium Limited; Orientation: Vertical; ComponentLink1Description: Manufacturer Link; ComponentLink1URL: http://www.tycoelectronics.com/; ComponentLink2Description: Packaging Specification; ComponentLink2URL: http://ecommas.tycoelectronics.com/commerce/DocumentDelivery/DDEController?Action=showdoc&DocId=Customer+Drawing%7F174683%7FB%7Fpdf%7FEnglish%7FENG_CD_174683_B.pdf; ComponentLink3Description: Iges Model; ComponentLink3URL: http://catalog.tycoelectronics.com/TE/docs/cadgeo/0/13/30310.tar.gz
footprint 6-174683-6 (Connector; D Subminiature 050 Series; 48 Position; Vertical)
signal-integrity model D Subminiature
pins: 1, 2, 3, 4, 5, 6, 7, 8, 9, 10, 11, 12, 13, 14, 15, 16, 17, 18, 19, 20, 21, 22, 23, 24, 25, 26, 27, 28, 29, 30, 31, 32, 33, 34, 35, 36, 37, 38, 39, 40, 41, 42, 43, 44, 45, 46, 47, 48

## 6-174683-7
designator J?
Cap Assembly, Vertical with Kink for AMPLIMITE I B-to-B Connector; Positions: 68; Note: Series I; Gender: Plug Header; Note: Without Mating Lock; PCB_Layout: Complies with manufacturer's recommendation.; DrillSize: Corresponds to nominal value.; Published: 17-Jul-2002; DatasheetDocument: 29-Mar-1991; PackageDocument: 29-Mar-1991; PackageReference: 6-174683-7; Publisher: Altium Limited; Orientation: Vertical; ComponentLink1Description: Manufacturer Link; ComponentLink1URL: http://www.tycoelectronics.com/; ComponentLink2Description: Packaging Specification; ComponentLink2URL: http://ecommas.tycoelectronics.com/commerce/DocumentDelivery/DDEController?Action=showdoc&DocId=Customer+Drawing%7F174683%7FB%7Fpdf%7FEnglish%7FENG_CD_174683_B.pdf; ComponentLink3Description: Iges Model; ComponentLink3URL: http://catalog.tycoelectronics.com/TE/docs/cadgeo/0/13/30310.tar.gz
footprint 6-174683-7 (Connector; D Subminiature 050 Series; 68 Position; Vertical)
signal-integrity model D Subminiature
pins: 1, 2, 3, 4, 5, 6, 7, 8, 9, 10, 11, 12, 13, 14, 15, 16, 17, 18, 19, 20, 21, 22, 23, 24, 25, 26, 27, 28, 29, 30, 31, 32, 33, 34, 35, 36, 37, 38, 39, 40, 41, 42, 43, 44, 45, 46, 47, 48, 49, 50, 51, 52, 53, 54, 55, 56, 57, 58, 59, 60, 61, 62, 63, 64, 65, 66, 67, 68

## 6-174683-8
designator J?
Cap Assembly, Vertical with Kink for AMPLIMITE I B-to-B Connector; Positions: 96; Note: Series I; Gender: Plug Header; Note: Without Mating Lock; PCB_Layout: Complies with manufacturer's recommendation.; DrillSize: Corresponds to nominal value.; Published: 17-Jul-2002; DatasheetDocument: 29-Mar-1991; PackageDocument: 29-Mar-1991; PackageReference: 6-174683-8; Publisher: Altium Limited; Orientation: Vertical; ComponentLink1Description: Manufacturer Link; ComponentLink1URL: http://www.tycoelectronics.com/; ComponentLink2Description: Packaging Specification; ComponentLink2URL: http://ecommas.tycoelectronics.com/commerce/DocumentDelivery/DDEController?Action=showdoc&DocId=Customer+Drawing%7F174683%7FB%7Fpdf%7FEnglish%7FENG_CD_174683_B.pdf; ComponentLink3Description: Iges Model; ComponentLink3URL: http://catalog.tycoelectronics.com/TE/docs/cadgeo/0/13/30310.tar.gz
footprint 6-174683-8 (Connector; D Subminiature 050 Series; 96 Position; Vertical)
signal-integrity model D Subminiature
pins: 1, 2, 3, 4, 5, 6, 7, 8, 9, 10, 11, 12, 13, 14, 15, 16, 17, 18, 19, 20, 21, 22, 23, 24, 25, 26, 27, 28, 29, 30, 31, 32, 33, 34, 35, 36, 37, 38, 39, 40, 41, 42, 43, 44, 45, 46, 47, 48, 49, 50, 51, 52, 53, 54, 55, 56, 57, 58, 59, 60, 61, 62, 63, 64, 65, 66, 67, 68, 69, 70, 71, 72, 73, 74, 75, 76, 77, 78, 79, 80, 81, 82, 83, 84, 85, 86, 87, 88, 89, 90, 91, 92, 93, 94, 95, 96

## 6-174684-5
designator J?
Cap Assembly, Horizontal with Kink for AMPLIMITE I B-to-B Connector; Positions: 34; Note: Series I; Gender: Plug Header; Note: Without Mating Lock; PCB_Layout: Complies with manufacturer's recommendation.; DrillSize: Corresponds to nominal value.; Published: 17-Jul-2002; DatasheetDocument: 29-Mar-1991; PackageDocument: 29-Mar-1991; PackageReference: 6-174684-5; Publisher: Altium Limited; Orientation: Right Angle; ComponentLink1Description: Manufacturer Link; ComponentLink1URL: http://www.tycoelectronics.com/; ComponentLink2Description: Packaging Specification; ComponentLink2URL: http://ecommas.tycoelectronics.com/commerce/DocumentDelivery/DDEController?Action=showdoc&DocId=Customer+Drawing%7F174684%7FB%7Fpdf%7FEnglish%7FENG_CD_174684_B.pdf
footprint 6-174684-5 (Connector; D Subminiature 050 Series; 34 Position; Right Angle)
signal-integrity model D Subminiature
pins: 1, 2, 3, 4, 5, 6, 7, 8, 9, 10, 11, 12, 13, 14, 15, 16, 17, 18, 19, 20, 21, 22, 23, 24, 25, 26, 27, 28, 29, 30, 31, 32, 33, 34

## 6-174684-6
designator J?
Cap Assembly, Horizontal with Kink for AMPLIMITE I B-to-B Connector; Positions: 48; Note: Series I; Gender: Plug Header; Note: Without Mating Lock; PCB_Layout: Complies with manufacturer's recommendation.; DrillSize: Corresponds to nominal value.; Published: 17-Jul-2002; DatasheetDocument: 29-Mar-1991; PackageDocument: 29-Mar-1991; PackageReference: 6-174684-6; Publisher: Altium Limited; Orientation: Right Angle; ComponentLink1Description: Manufacturer Link; ComponentLink1URL: http://www.tycoelectronics.com/; ComponentLink2Description: Packaging Specification; ComponentLink2URL: http://ecommas.tycoelectronics.com/commerce/DocumentDelivery/DDEController?Action=showdoc&DocId=Customer+Drawing%7F174684%7FB%7Fpdf%7FEnglish%7FENG_CD_174684_B.pdf
footprint 6-174684-6 (Connector; D Subminiature 050 Series; 48 Position; Right Angle)
signal-integrity model D Subminiature
pins: 1, 2, 3, 4, 5, 6, 7, 8, 9, 10, 11, 12, 13, 14, 15, 16, 17, 18, 19, 20, 21, 22, 23, 24, 25, 26, 27, 28, 29, 30, 31, 32, 33, 34, 35, 36, 37, 38, 39, 40, 41, 42, 43, 44, 45, 46, 47, 48

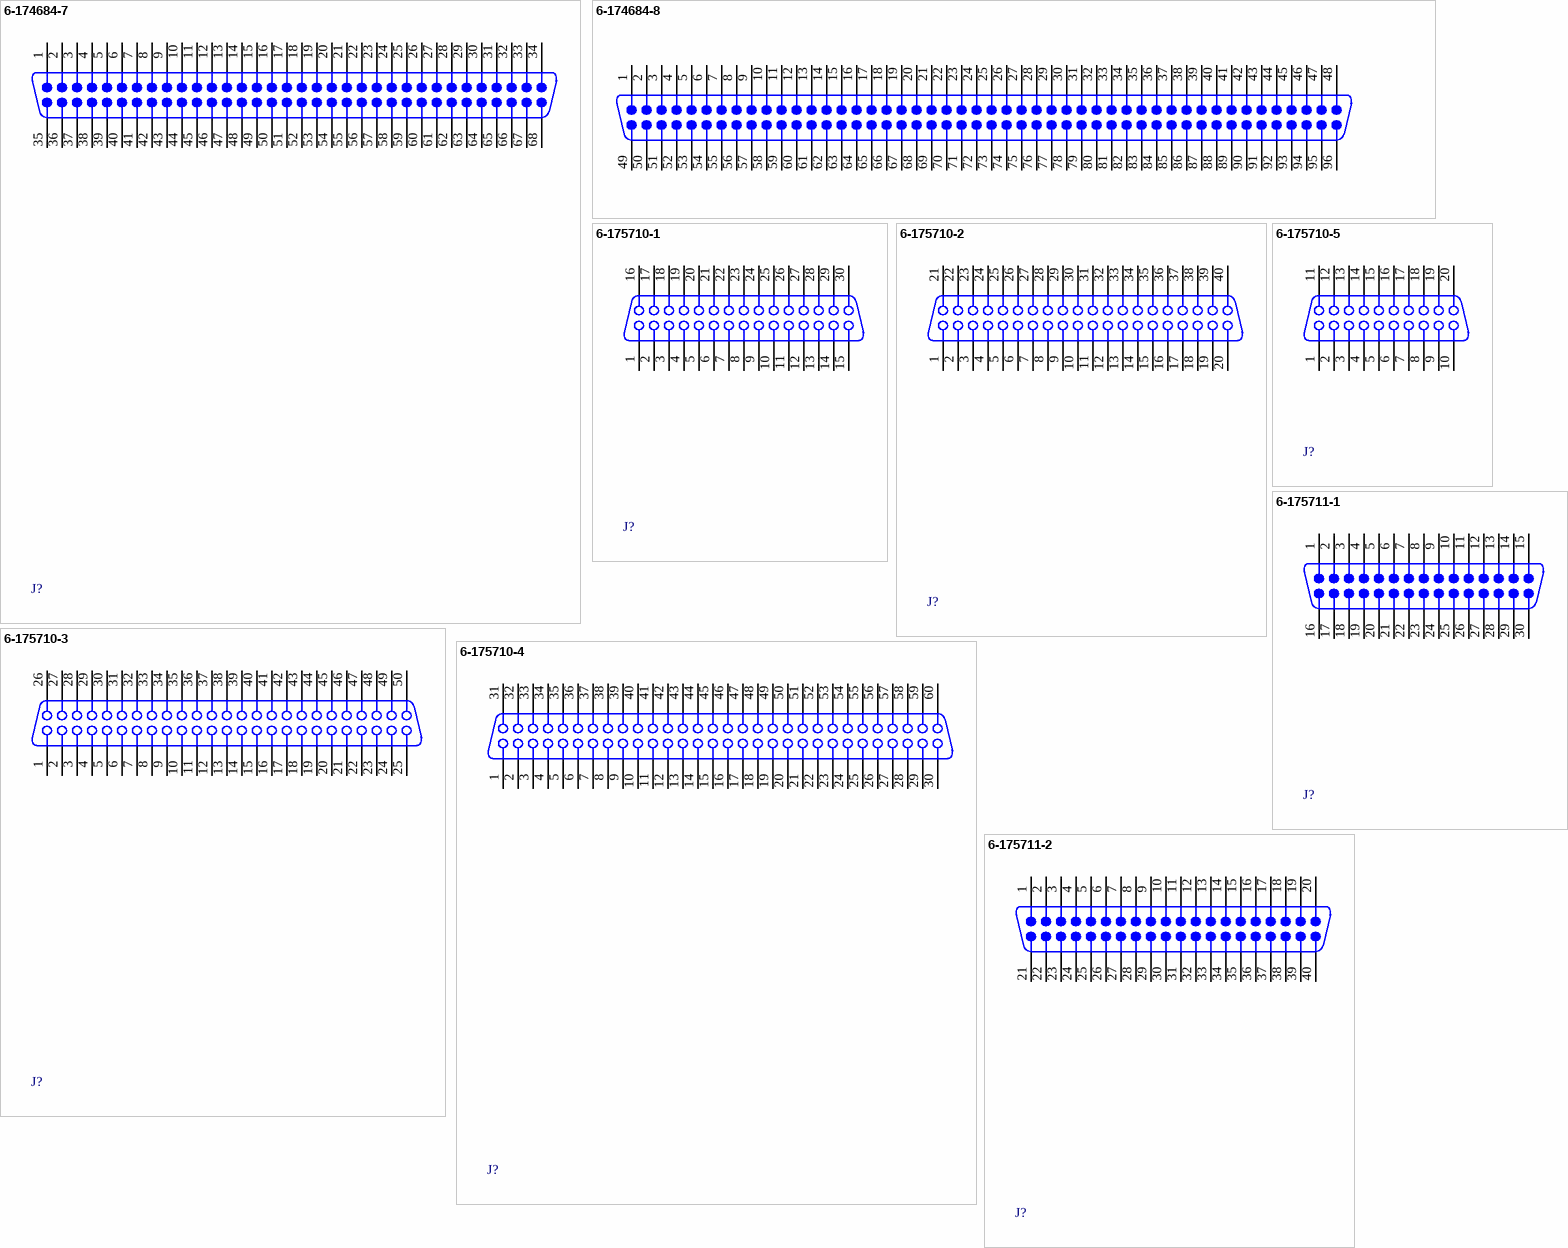
[diagram p9: symbols 6-174684-7 to 6-175711-2]

## 6-174684-7
designator J?
Cap Assembly, Horizontal with Kink for AMPLIMITE I B-to-B Connector; Positions: 68; Note: Series I; Gender: Plug Header; Note: Without Mating Lock; PCB_Layout: Complies with manufacturer's recommendation.; DrillSize: Corresponds to nominal value.; Published: 17-Jul-2002; DatasheetDocument: 29-Mar-1991; PackageDocument: 29-Mar-1991; PackageReference: 6-174684-7; Publisher: Altium Limited; Orientation: Right Angle; ComponentLink1Description: Manufacturer Link; ComponentLink1URL: http://www.tycoelectronics.com/; ComponentLink2Description: Packaging Specification; ComponentLink2URL: http://ecommas.tycoelectronics.com/commerce/DocumentDelivery/DDEController?Action=showdoc&DocId=Customer+Drawing%7F174684%7FB%7Fpdf%7FEnglish%7FENG_CD_174684_B.pdf
footprint 6-174684-7 (Connector; D Subminiature 050 Series; 68 Position; Right Angle)
signal-integrity model D Subminiature
pins: 1, 2, 3, 4, 5, 6, 7, 8, 9, 10, 11, 12, 13, 14, 15, 16, 17, 18, 19, 20, 21, 22, 23, 24, 25, 26, 27, 28, 29, 30, 31, 32, 33, 34, 35, 36, 37, 38, 39, 40, 41, 42, 43, 44, 45, 46, 47, 48, 49, 50, 51, 52, 53, 54, 55, 56, 57, 58, 59, 60, 61, 62, 63, 64, 65, 66, 67, 68

## 6-174684-8
designator J?
Cap Assembly, Horizontal with Kink for AMPLIMITE I B-to-B Connector; Positions: 96; Note: Series I; Gender: Plug Header; Note: Without Mating Lock; PCB_Layout: Complies with manufacturer's recommendation.; DrillSize: Corresponds to nominal value.; Published: 17-Jul-2002; DatasheetDocument: 29-Mar-1991; PackageDocument: 29-Mar-1991; PackageReference: 6-174684-8; Publisher: Altium Limited; Orientation: Right Angle; ComponentLink1Description: Manufacturer Link; ComponentLink1URL: http://www.tycoelectronics.com/; ComponentLink2Description: Packaging Specification; ComponentLink2URL: http://ecommas.tycoelectronics.com/commerce/DocumentDelivery/DDEController?Action=showdoc&DocId=Customer+Drawing%7F174684%7FB%7Fpdf%7FEnglish%7FENG_CD_174684_B.pdf
footprint 6-174684-8 (Connector; D Subminiature 050 Series; 96 Position; Right Angle)
signal-integrity model D Subminiature
pins: 1, 2, 3, 4, 5, 6, 7, 8, 9, 10, 11, 12, 13, 14, 15, 16, 17, 18, 19, 20, 21, 22, 23, 24, 25, 26, 27, 28, 29, 30, 31, 32, 33, 34, 35, 36, 37, 38, 39, 40, 41, 42, 43, 44, 45, 46, 47, 48, 49, 50, 51, 52, 53, 54, 55, 56, 57, 58, 59, 60, 61, 62, 63, 64, 65, 66, 67, 68, 69, 70, 71, 72, 73, 74, 75, 76, 77, 78, 79, 80, 81, 82, 83, 84, 85, 86, 87, 88, 89, 90, 91, 92, 93, 94, 95, 96

## 6-175710-1
designator J?
Plug Assembly, Vertical with Kink AMPLIMITE .050 Series I B-to-B Connector; Positions: 30; Gender: Receptacle Header; Note: Without Mating Lock; PCB_Layout: Complies with manufacturer's recommendation.; DrillSize: Corresponds to nominal value.; Published: 17-Jul-2002; DatasheetDocument: 9-May-1994; PackageDocument: 09-May-1994; PackageReference: 6-175710-1; Publisher: Altium Limited; Orientation: Vertical; Note: Series I; ComponentLink1Description: Manufacturer Link; ComponentLink1URL: http://www.tycoelectronics.com/; ComponentLink2Description: Packaging Specification; ComponentLink2URL: http://ecommas.tycoelectronics.com/commerce/DocumentDelivery/DDEController?Action=showdoc&DocId=Customer+Drawing%7F175710%7FC%7Fpdf%7FEnglish%7FENG_CD_175710_C.pdf; ComponentLink3Description: Iges Model; ComponentLink3URL: http://catalog.tycoelectronics.com/TE/docs/cadgeo/3/25/77523.tar.gz
footprint 6-175710-1 (Connector; D Subminiature 050 Series; 30 Position; Vertical)
signal-integrity model D Subminiature
pins: 1, 2, 3, 4, 5, 6, 7, 8, 9, 10, 11, 12, 13, 14, 15, 16, 17, 18, 19, 20, 21, 22, 23, 24, 25, 26, 27, 28, 29, 30

## 6-175710-2
designator J?
Plug Assembly, Vertical with Kink AMPLIMITE .050 Series I B-to-B Connector; Positions: 40; Gender: Receptacle Header; Note: Without Mating Lock; PCB_Layout: Complies with manufacturer's recommendation.; DrillSize: Corresponds to nominal value.; Published: 17-Jul-2002; DatasheetDocument: 9-May-1994; PackageDocument: 09-May-1994; PackageReference: 6-175710-2; Publisher: Altium Limited; Orientation: Vertical; Note: Series I; ComponentLink1Description: Manufacturer Link; ComponentLink1URL: http://www.tycoelectronics.com/; ComponentLink2Description: Packaging Specification; ComponentLink2URL: http://ecommas.tycoelectronics.com/commerce/DocumentDelivery/DDEController?Action=showdoc&DocId=Customer+Drawing%7F175710%7FC%7Fpdf%7FEnglish%7FENG_CD_175710_C.pdf; ComponentLink3Description: Iges Model; ComponentLink3URL: http://catalog.tycoelectronics.com/TE/docs/cadgeo/3/25/77523.tar.gz
footprint 6-175710-2 (Connector; D Subminiature 050 Series; 40 Position; Vertical)
signal-integrity model D Subminiature
pins: 1, 2, 3, 4, 5, 6, 7, 8, 9, 10, 11, 12, 13, 14, 15, 16, 17, 18, 19, 20, 21, 22, 23, 24, 25, 26, 27, 28, 29, 30, 31, 32, 33, 34, 35, 36, 37, 38, 39, 40

## 6-175710-3
designator J?
Plug Assembly, Vertical with Kink AMPLIMITE .050 Series I B-to-B Connector; Positions: 50; Gender: Receptacle Header; Note: Without Mating Lock; PCB_Layout: Complies with manufacturer's recommendation.; DrillSize: Corresponds to nominal value.; Published: 17-Jul-2002; DatasheetDocument: 9-May-1994; PackageDocument: 09-May-1994; PackageReference: 6-175710-3; Publisher: Altium Limited; Orientation: Vertical; Note: Series I; ComponentLink1Description: Manufacturer Link; ComponentLink1URL: http://www.tycoelectronics.com/; ComponentLink2Description: Packaging Specification; ComponentLink2URL: http://ecommas.tycoelectronics.com/commerce/DocumentDelivery/DDEController?Action=showdoc&DocId=Customer+Drawing%7F175710%7FC%7Fpdf%7FEnglish%7FENG_CD_175710_C.pdf; ComponentLink3Description: Iges Model; ComponentLink3URL: http://catalog.tycoelectronics.com/TE/docs/cadgeo/3/25/77523.tar.gz
footprint 6-175710-3 (Connector; D Subminiature 050 Series; 50 Position; Vertical)
signal-integrity model D Subminiature
pins: 1, 2, 3, 4, 5, 6, 7, 8, 9, 10, 11, 12, 13, 14, 15, 16, 17, 18, 19, 20, 21, 22, 23, 24, 25, 26, 27, 28, 29, 30, 31, 32, 33, 34, 35, 36, 37, 38, 39, 40, 41, 42, 43, 44, 45, 46, 47, 48, 49, 50

## 6-175710-4
designator J?
Plug Assembly, Vertical with Kink AMPLIMITE .050 Series I B-to-B Connector; Positions: 60; Gender: Receptacle Header; Note: Without Mating Lock; PCB_Layout: Complies with manufacturer's recommendation.; DrillSize: Corresponds to nominal value.; Published: 17-Jul-2002; DatasheetDocument: 9-May-1994; PackageDocument: 09-May-1994; PackageReference: 6-175710-4; Publisher: Altium Limited; Orientation: Vertical; Note: Series I; ComponentLink1Description: Manufacturer Link; ComponentLink1URL: http://www.tycoelectronics.com/; ComponentLink2Description: Packaging Specification; ComponentLink2URL: http://ecommas.tycoelectronics.com/commerce/DocumentDelivery/DDEController?Action=showdoc&DocId=Customer+Drawing%7F175710%7FC%7Fpdf%7FEnglish%7FENG_CD_175710_C.pdf; ComponentLink3Description: Iges Model; ComponentLink3URL: http://catalog.tycoelectronics.com/TE/docs/cadgeo/3/25/77523.tar.gz
footprint 6-175710-4 (Connector; D Subminiature 050 Series; 60 Position; Vertical)
signal-integrity model D Subminiature
pins: 1, 2, 3, 4, 5, 6, 7, 8, 9, 10, 11, 12, 13, 14, 15, 16, 17, 18, 19, 20, 21, 22, 23, 24, 25, 26, 27, 28, 29, 30, 31, 32, 33, 34, 35, 36, 37, 38, 39, 40, 41, 42, 43, 44, 45, 46, 47, 48, 49, 50, 51, 52, 53, 54, 55, 56, 57, 58, 59, 60

## 6-175710-5
designator J?
Plug Assembly, Vertical with Kink AMPLIMITE .050 Series I B-to-B Connector; Positions: 20; Gender: Receptacle Header; Note: Without Mating Lock; PCB_Layout: Complies with manufacturer's recommendation.; DrillSize: Corresponds to nominal value.; Published: 17-Jul-2002; DatasheetDocument: 9-May-1994; PackageDocument: 09-May-1994; PackageReference: 6-175710-5; Publisher: Altium Limited; Orientation: Vertical; Note: Series I; ComponentLink1Description: Manufacturer Link; ComponentLink1URL: http://www.tycoelectronics.com/; ComponentLink2Description: Packaging Specification; ComponentLink2URL: http://ecommas.tycoelectronics.com/commerce/DocumentDelivery/DDEController?Action=showdoc&DocId=Customer+Drawing%7F175710%7FC%7Fpdf%7FEnglish%7FENG_CD_175710_C.pdf; ComponentLink3Description: Iges Model; ComponentLink3URL: http://catalog.tycoelectronics.com/TE/docs/cadgeo/3/25/77523.tar.gz
footprint 6-175710-5 (Connector; D Subminiature 050 Series; 20 Position; Vertical)
signal-integrity model D Subminiature
pins: 1, 2, 3, 4, 5, 6, 7, 8, 9, 10, 11, 12, 13, 14, 15, 16, 17, 18, 19, 20

## 6-175711-1
designator J?
Cap Assembly, Vertical with Kink AMPLIMITE .050 Series I B-to-B Connector; Positions: 30; Gender: Plug Header; Note: Without Mating Lock; PCB_Layout: Complies with manufacturer's recommendation.; DrillSize: Corresponds to nominal value.; Published: 17-Jul-2002; DatasheetDocument: Sep-1993; PackageDocument: Sep-1993; PackageReference: 6-175711-1; Publisher: Altium Limited; Orientation: Vertical; Note: Series I; ComponentLink1Description: Manufacturer Link; ComponentLink1URL: http://www.tycoelectronics.com/; ComponentLink2Description: Packaging Specification; ComponentLink2URL: http://ecommas.tycoelectronics.com/commerce/DocumentDelivery/DDEController?Action=showdoc&DocId=Customer+Drawing%7F175711%7FC%7Fpdf%7FEnglish%7FENG_CD_175711_C.pdf
footprint 6-175711-1 (Connector; D Subminiature 050 Series; 30 Position; Vertical)
signal-integrity model D Subminiature
pins: 1, 2, 3, 4, 5, 6, 7, 8, 9, 10, 11, 12, 13, 14, 15, 16, 17, 18, 19, 20, 21, 22, 23, 24, 25, 26, 27, 28, 29, 30